# EAGLE library part 750310031 (library Wurth Electronics Midcom Inc V1-0)
Package Style: Speedy EP10 SMD Mounting: SMD Pins: 8 pins Bobbin: 070-2720 Windings Primary: 33-57VDC, 200kHz Aux: 8VDC, 20mADC Secondary: 12VDC, 7W Best pinouts for production vary per application. Please contact Wurth Electronics Midcom, Inc. for assistance with your custom design. Datasheet: 750310031 <http://www.we-online.com/web/en/index.php/show/media/passive_components_-_custom_magnetics/pdf_doc_files/spec_sheets/7503/750310031.pdf> Website: Wurth Electronics Midcom <http://www.we-online.com/midcom> Contact us Wurth Electronics Midcom, Inc. 121 Airport Dr. Watertown, SD 57201 Phone: (605) 886-4385 Fax: (605) 886-4486 E-Mail: midcom@we-online.com
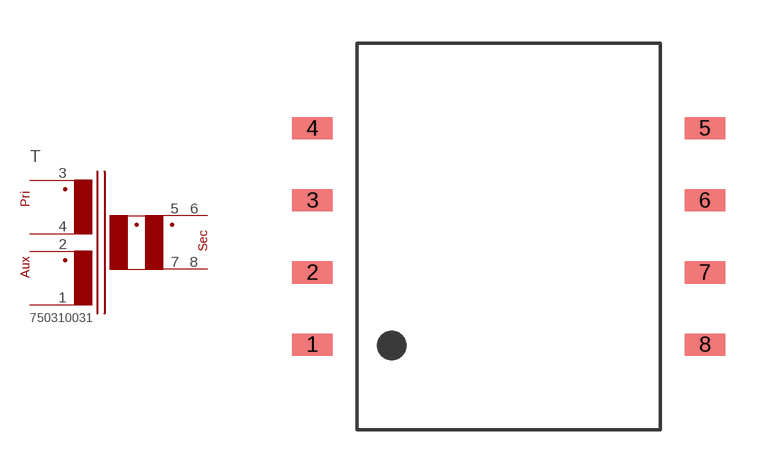
[diagram p47: symbol with the pads of 00SPEEDY_EP10_SMD_8PIN; footprint 00SPEEDY_EP10_SMD_8PIN]

Designator prefix T

## 750310031  [00SPEEDY_EP10_SMD_8PIN]
1  1  pas
2  2  pas
3  4  pas
4  3  pas
5  8  pas
6  5  pas
7  7  pas
8  6  pas

## Footprint 00SPEEDY_EP10_SMD_8PIN (pad centres in mm)
Package Style: Speedy EP10 Mounting: SMD Pins: 8 pins Bobbin: 070-2720
smd 1.397 x 0.762: 1 -6.782,-3.734; 2 -6.782,-1.245; 3 -6.782,1.245; 4 -6.782,3.734; 5 6.782,3.734; 6 6.782,1.245; 7 6.782,-1.245; 8 6.782,-3.734